# Altium schematic symbol library ZENER.Schlib: 1 symbol
Pins are listed as number, name and electrical type; pins without a type are passive.

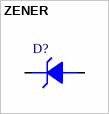
[diagram p0: symbol ZENER]

## ZENER
designator D?  (value not drawn)
ZENER
pins: 1 A, 2 C